# EAGLE library part 691309510006 (library Wurth_Connectors_WR-TBL Pluggable Connector)
WR-TBL Serie 3095 - 5.08 mm Reversed Gender Horizontal PCB Header KIND PROPERTIES Pitch 5.08 mm MATERIAL PROPERTIES Insulator Material PA66 Insulator Flammability Rating UL94 V-0 Contact Material Brass Contact Plating Tin GENERAL INFORMATION Operating Temperature -40 up to +115 °C Compliance RoHS ELECTRICAL PROPERTIES IR cULus 20 A Working Voltage [cULus] 300 V (AC) Withstanding Voltage [cULus] 1600 V (AC) Contact Resistance [cULus] 20 mΩ CERTIFICATION UL Approval E315414 <https://www.we-online.com/catalog/media/o33254v209%20Family_WR-TBL_69130951000x.jpg> Details see: https://www.we-online.com/catalog/en/TBL_5_08_3095_REVERSED_GENDER_VERTICAL_PCB_HEADER_69130951000X/ Updated by Ella Wu 2019-12-27 2022(C) Wurth Elektronik
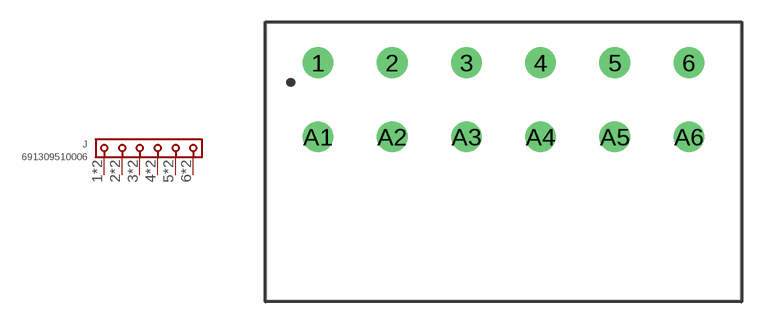
[diagram p394: symbol with the pads of 691309510006; footprint 691309510006]

Designator prefix J

## 691309510006 (DATASHEET-URL: https://www.we-online.com/redexpert/spec/691309510006?ae; IR-UL: 20A; MOUNT: THT; PART-NUMBER: 691309510006; PINS: 6; PITCH: 5.08mm; TYPE: Horizontal; VALUE: 691309510006; WORKING-VOLTAGE-UL: 300V (AC))  [691309510006]
1  1  pas
2  2  pas
3  3  pas
4  4  pas
5  5  pas
6  6  pas
A1  1  pas
A2  2  pas
A3  3  pas
A4  4  pas
A5  5  pas
A6  6  pas

## Footprint 691309510006 (pad centres in mm)
WR-TBL Serie 3095 - 5.08 mm Reversed Gender Horizontal PCB Header Max Height = 8.6mm , Pitch 5.08mm , 6pins
drill 1.4: 1 -12.7,2.54; 2 -7.62,2.54; 3 -2.54,2.54; 4 2.54,2.54; 5 7.62,2.54; 6 12.7,2.54; A1 -12.7,-2.54; A2 -7.62,-2.54; A3 -2.54,-2.54; A4 2.54,-2.54; A5 7.62,-2.54; A6 12.7,-2.54